# Altium integrated library LM5122MHX_NOPB.IntLib: 1 symbol
Pins are listed as number, name and electrical type; pins without a type are passive.

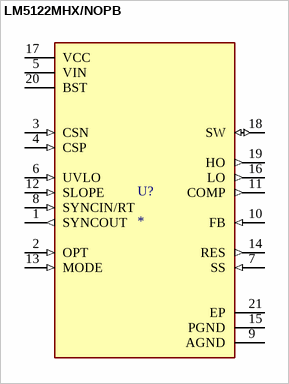
[diagram p0: symbol LM5122MHX/NOPB]

## LM5122MHX/NOPB
designator U?
3-65V Wide Vin, Current Mode Synchronous Boost Controller with Multiphase Capability; MF: Texas Instruments; MP: LM5122MHX/NOPB; SnapEDA_Link: https://www.snapeda.com/parts/LM5122MHX/NOPB/Texas+Instruments/view-part/?ref=snap; Package: HTSSOP-20 Texas Instruments; Value: *; Check_prices: https://www.snapeda.com/parts/LM5122MHX/NOPB/Texas+Instruments/view-part/?ref=eda
footprint SOP65P640X110-21N
pins: 1 SYNCOUT (out), 2 OPT (in), 3 CSN (in), 4 CSP (in), 5 VIN (power), 6 UVLO (in), 7 SS (in), 8 SYNCIN/RT (in), 9 AGND (power), 10 FB (in), 11 COMP (out), 12 SLOPE (in), 13 MODE (in), 14 RES (out), 15 PGND (power), 16 LO (out), 17 VCC (power), 18 SW (io), 19 HO (out), 20 BST (power), 21 EP